# Altium schematic symbol library kmilo17pet-LT_PMIC_LT.SchLib: 2252 symbols (part 87 of 124)
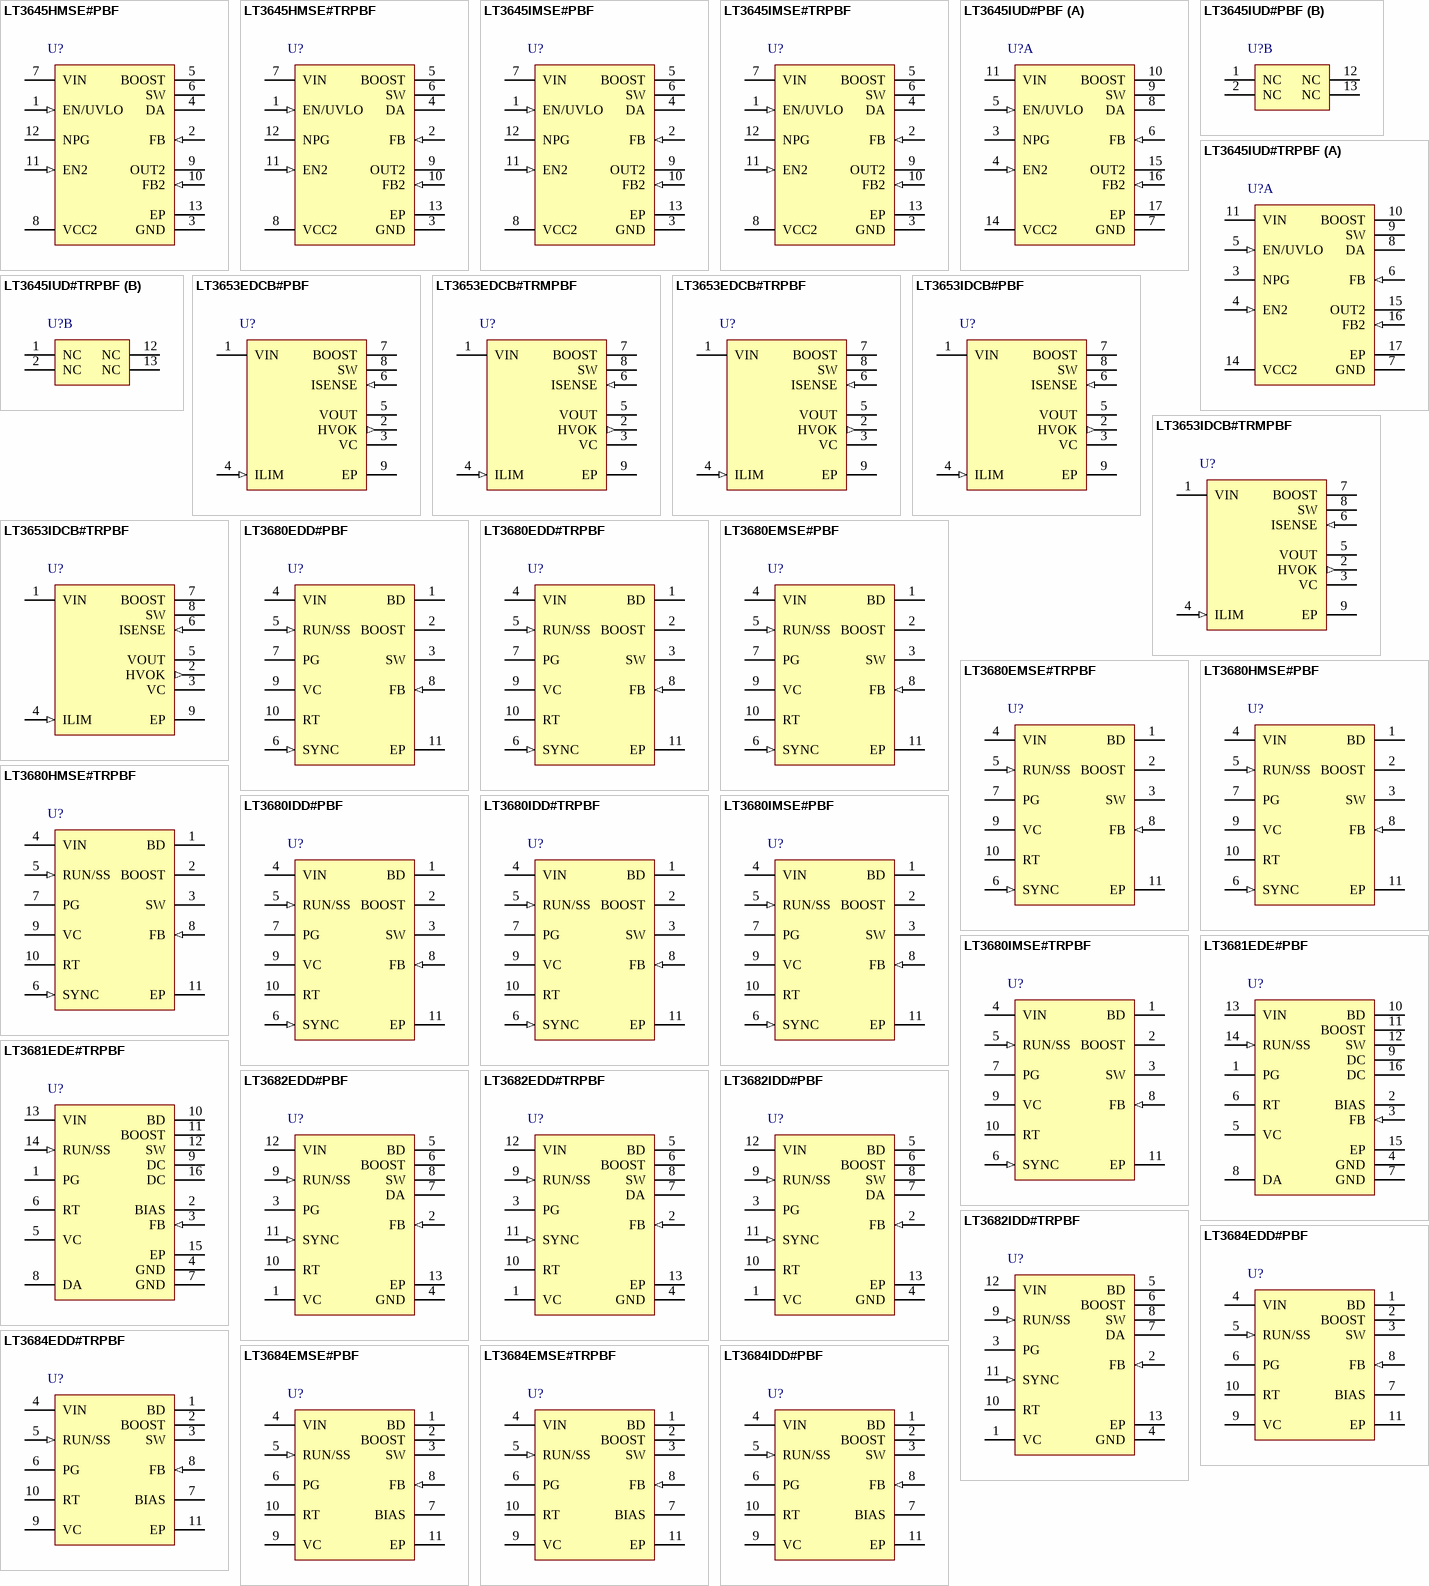
[diagram p157: symbols LT3645HMSE#PBF to LT3684IDD#PBF]

## LT3653IDCB#TRPBF
designator U?
1.2 A, HV Input Regulator with Output Current Limit for Battery Charger Application, 8-pin SON (DCB-8), -40 to 125 degC, Pb-Free, Tape and Reel; Manufacturer: Linear Technology; PartNumber: LT3653IDCB#TRPBF; Number of Outputs: 1; PackageReference: DCB-8; PackageDescription: 8-Pin Plastic DFN, Body 2 x 3 mm, Pitch 0.45 mm; Supplier 1: Digi-Key; Supplier Part Number 1: LT3653IDCB#TRPBF-ND; RoHS: TRUE
footprint LT-DCB-8_V (SON, 8-Leads, Body 3x2mm, Pitch 0.45mm, Thermal Pad 1.65x1.35mm)
pins: 1 VIN (power) "The VIN pin supplies current to the LT3653’s internal regulator and the internal power switch. Locally bypass this pin with a capacitor.", 2 HVOK (out) "The HVOK pin is a status pin which indicates that the internal bias rail is present and that an input undervoltage lockout fault, an overvoltage lockout fault or an over temperature fault are not present.", 3 VC "The VC pin is the output of the internal error amplifier and is internally compensated. The voltage on this pin controls the peak switch current. Connect this pin to the battery charger VC pin for battery tracking function.", 4 ILIM (in) "Connect a resistor to GND to program the output current limit of the regulator. See the ILIM Resistor section in Application Information.", 5 VOUT (power) "The VOUT pin is connected to the negative terminal of the internal current sense resistor of the output current limit circuit. Maximum VOUT voltage is regulated to 4.8V.", 6 ISENSE (in) "The ISENSE pin is the positive input to the internal current sense resistor of the output current limit circuit. The ISENSE pin is also the anode of the internal BOOST diode.", 7 BOOST "The BOOST pin provides a drive voltage, higher than the input voltage, to the internal power switch. The BOOST pin is internally connected to the cathode of the BOOST diode.", 8 SW (power) "The SW pin is the output of the internal power switch. Connect this pin to the inductor, catch diode and boost capacitor.", 9 EP (power) "Ground. The Exposed Pad must be soldered to the PCB and electrically connected to ground. Use a large ground plane and vias to optimize thermal performance."

## LT3680EDD#PBF
designator U?
3.5 A, 2.4 MHz Step-Down Switching Regulator with 75 uA Quiescent Current, 10-pin SON (DD-10), -40 to 125 degC, Pb-Free; Manufacturer: Linear Technology; PartNumber: LT3680EDD#PBF; Number of Outputs: 1; PackageReference: DD-10; PackageDescription: 10-Pin Plastic DFN, Body 3 x 3 mm, Pitch 0.5 mm; Supplier 1: Digi-Key; Supplier Part Number 1: LT3680EDD#PBF-ND; RoHS: TRUE
footprint LT-DD-10_V (SON, 10-Leads, Body 3x3mm, Pitch 0.5mm, Thermal Pad 2.38x1.65mm)
pins: 1 BD (power) "This pin connects to the anode of the boost Schottky diode. BD also supplies current to the internal regulator.", 2 BOOST "This pin is used to provide a drive voltage, higher than the input voltage, to the internal bipolar NPN power switch.", 3 SW (power) "The SW pin is the output of the internal power switch. Connect this pin to the inductor, catch diode and boost capacitor.", 4 VIN (power) "The VIN pin supplies current to internal regulator and to the internal power switch. This pin must be locally bypassed.", 5 RUN/SS (in) "If the shutdown feature is not used, tie this pin to the VIN pin. RUN/SS also provides a soft-start function; see the Applications Information section.", 6 SYNC (in) "This is the external clock synchronization input. Ground this pin for low ripple Burst Mode operation at low output loads. Tie to a clock source for synchronization. Clock edges should have rise and fall times faster than (See Datasheet)", 7 PG (oc) "The PG pin is the open collector output of an internal comparator. PG remains low until the FB pin is within 9% of the final regulation voltage. PG output is valid when VIN is above 3.6V and RUN/SS is high.", 8 FB (in) "Connect the feedback resistor divider tap to this pin.", 9 VC "The VC pin is the output of the internal error amplifier. The voltage on this pin controls the peak switch current. Tie an RC network from this pin to ground to compensate the control loop.", 10 RT "Oscillator Resistor Input. Connecting a resistor to ground from this pin sets the switching frequency.", 11 EP (power) "Ground. The Exposed Pad must be soldered to PCB."

## LT3680EDD#TRPBF
designator U?
3.5 A, 2.4 MHz Step-Down Switching Regulator with 75 uA Quiescent Current, 10-pin SON (DD-10), -40 to 125 degC, Pb-Free, Tape and Reel; Manufacturer: Linear Technology; PartNumber: LT3680EDD#TRPBF; Number of Outputs: 1; PackageReference: DD-10; PackageDescription: 10-Pin Plastic DFN, Body 3 x 3 mm, Pitch 0.5 mm; Supplier 1: Digi-Key; Supplier Part Number 1: LT3680EDD#TRPBF-ND; RoHS: TRUE
footprint LT-DD-10_V (SON, 10-Leads, Body 3x3mm, Pitch 0.5mm, Thermal Pad 2.38x1.65mm)
pins: 1 BD (power) "This pin connects to the anode of the boost Schottky diode. BD also supplies current to the internal regulator.", 2 BOOST "This pin is used to provide a drive voltage, higher than the input voltage, to the internal bipolar NPN power switch.", 3 SW (power) "The SW pin is the output of the internal power switch. Connect this pin to the inductor, catch diode and boost capacitor.", 4 VIN (power) "The VIN pin supplies current to internal regulator and to the internal power switch. This pin must be locally bypassed.", 5 RUN/SS (in) "If the shutdown feature is not used, tie this pin to the VIN pin. RUN/SS also provides a soft-start function; see the Applications Information section.", 6 SYNC (in) "This is the external clock synchronization input. Ground this pin for low ripple Burst Mode operation at low output loads. Tie to a clock source for synchronization. Clock edges should have rise and fall times faster than (See Datasheet)", 7 PG (oc) "The PG pin is the open collector output of an internal comparator. PG remains low until the FB pin is within 9% of the final regulation voltage. PG output is valid when VIN is above 3.6V and RUN/SS is high.", 8 FB (in) "Connect the feedback resistor divider tap to this pin.", 9 VC "The VC pin is the output of the internal error amplifier. The voltage on this pin controls the peak switch current. Tie an RC network from this pin to ground to compensate the control loop.", 10 RT "Oscillator Resistor Input. Connecting a resistor to ground from this pin sets the switching frequency.", 11 EP (power) "Ground. The Exposed Pad must be soldered to PCB."

## LT3680EMSE#PBF
designator U?
3.5 A, 2.4 MHz Step-Down Switching Regulator with 75 uA Quiescent Current, 10-pin SOP (MSE-10-EDP), -40 to 125 degC, Pb-Free; Manufacturer: Linear Technology; PartNumber: LT3680EMSE#PBF; Number of Outputs: 1; PackageReference: MSE-10; PackageDescription: 10-Pin Plastic MSOP, Exposed Die Pad, Body 3 x 3 mm, Pitch 0.5 mm; Supplier 1: Digi-Key; Supplier Part Number 1: LT3680EMSE#PBF-ND; RoHS: TRUE
footprint LT-MSE-10-EDP-2060x1830TP_N (SOP, 10-Leads, Body 3.1x3.1mm, Pitch 0.5mm, Thermal Pad 2.17x1.94mm, IPC Medium Density)
footprint LT-MSE-10-EDP-2060x1830TP_L (SOP, 10-Leads, Body 3.1x3.1mm, Pitch 0.5mm, Thermal Pad 2.17x1.94mm, IPC High Density)
footprint LT-MSE-10-EDP-2060x1830TP_M (SOP, 10-Leads, Body 3.1x3.1mm, Pitch 0.5mm, Thermal Pad 2.17x1.94mm, IPC Low Density)
pins: 1 BD (power) "This pin connects to the anode of the boost Schottky diode. BD also supplies current to the internal regulator.", 2 BOOST "This pin is used to provide a drive voltage, higher than the input voltage, to the internal bipolar NPN power switch.", 3 SW (power) "The SW pin is the output of the internal power switch. Connect this pin to the inductor, catch diode and boost capacitor.", 4 VIN (power) "The VIN pin supplies current to internal regulator and to the internal power switch. This pin must be locally bypassed.", 5 RUN/SS (in) "If the shutdown feature is not used, tie this pin to the VIN pin. RUN/SS also provides a soft-start function; see the Applications Information section.", 6 SYNC (in) "This is the external clock synchronization input. Ground this pin for low ripple Burst Mode operation at low output loads. Tie to a clock source for synchronization. Clock edges should have rise and fall times faster than (See Datasheet)", 7 PG (oc) "The PG pin is the open collector output of an internal comparator. PG remains low until the FB pin is within 9% of the final regulation voltage. PG output is valid when VIN is above 3.6V and RUN/SS is high.", 8 FB (in) "Connect the feedback resistor divider tap to this pin.", 9 VC "The VC pin is the output of the internal error amplifier. The voltage on this pin controls the peak switch current. Tie an RC network from this pin to ground to compensate the control loop.", 10 RT "Oscillator Resistor Input. Connecting a resistor to ground from this pin sets the switching frequency.", 11 EP (power) "Ground. The Exposed Pad must be soldered to PCB."

## LT3680EMSE#TRPBF
designator U?
3.5 A, 2.4 MHz Step-Down Switching Regulator with 75 uA Quiescent Current, 10-pin SOP (MSE-10-EDP), -40 to 125 degC, Pb-Free, Tape and Reel; Manufacturer: Linear Technology; PartNumber: LT3680EMSE#TRPBF; Number of Outputs: 1; PackageReference: MSE-10; PackageDescription: 10-Pin Plastic MSOP, Exposed Die Pad, Body 3 x 3 mm, Pitch 0.5 mm; Supplier 1: Digi-Key; Supplier Part Number 1: LT3680EMSE#TRPBFTR-ND; RoHS: TRUE
footprint LT-MSE-10-EDP-2060x1830TP_N (SOP, 10-Leads, Body 3.1x3.1mm, Pitch 0.5mm, Thermal Pad 2.17x1.94mm, IPC Medium Density)
footprint LT-MSE-10-EDP-2060x1830TP_L (SOP, 10-Leads, Body 3.1x3.1mm, Pitch 0.5mm, Thermal Pad 2.17x1.94mm, IPC High Density)
footprint LT-MSE-10-EDP-2060x1830TP_M (SOP, 10-Leads, Body 3.1x3.1mm, Pitch 0.5mm, Thermal Pad 2.17x1.94mm, IPC Low Density)
pins: 1 BD (power) "This pin connects to the anode of the boost Schottky diode. BD also supplies current to the internal regulator.", 2 BOOST "This pin is used to provide a drive voltage, higher than the input voltage, to the internal bipolar NPN power switch.", 3 SW (power) "The SW pin is the output of the internal power switch. Connect this pin to the inductor, catch diode and boost capacitor.", 4 VIN (power) "The VIN pin supplies current to internal regulator and to the internal power switch. This pin must be locally bypassed.", 5 RUN/SS (in) "If the shutdown feature is not used, tie this pin to the VIN pin. RUN/SS also provides a soft-start function; see the Applications Information section.", 6 SYNC (in) "This is the external clock synchronization input. Ground this pin for low ripple Burst Mode operation at low output loads. Tie to a clock source for synchronization. Clock edges should have rise and fall times faster than (See Datasheet)", 7 PG (oc) "The PG pin is the open collector output of an internal comparator. PG remains low until the FB pin is within 9% of the final regulation voltage. PG output is valid when VIN is above 3.6V and RUN/SS is high.", 8 FB (in) "Connect the feedback resistor divider tap to this pin.", 9 VC "The VC pin is the output of the internal error amplifier. The voltage on this pin controls the peak switch current. Tie an RC network from this pin to ground to compensate the control loop.", 10 RT "Oscillator Resistor Input. Connecting a resistor to ground from this pin sets the switching frequency.", 11 EP (power) "Ground. The Exposed Pad must be soldered to PCB."

## LT3680HMSE#PBF
designator U?
3.5 A, 2.4 MHz Step-Down Switching Regulator with 75 uA Quiescent Current, 10-pin SOP (MSE-10-EDP), -40 to 150 degC, Pb-Free; Manufacturer: Linear Technology; PartNumber: LT3680HMSE#PBF; Number of Outputs: 1; PackageReference: MSE-10; PackageDescription: 10-Pin Plastic MSOP, Exposed Die Pad, Body 3 x 3 mm, Pitch 0.5 mm; Supplier 1: Digi-Key; Supplier Part Number 1: LT3680HMSE#PBF-ND; RoHS: TRUE
footprint LT-MSE-10-EDP-2060x1830TP_N (SOP, 10-Leads, Body 3.1x3.1mm, Pitch 0.5mm, Thermal Pad 2.17x1.94mm, IPC Medium Density)
footprint LT-MSE-10-EDP-2060x1830TP_L (SOP, 10-Leads, Body 3.1x3.1mm, Pitch 0.5mm, Thermal Pad 2.17x1.94mm, IPC High Density)
footprint LT-MSE-10-EDP-2060x1830TP_M (SOP, 10-Leads, Body 3.1x3.1mm, Pitch 0.5mm, Thermal Pad 2.17x1.94mm, IPC Low Density)
pins: 1 BD (power) "This pin connects to the anode of the boost Schottky diode. BD also supplies current to the internal regulator.", 2 BOOST "This pin is used to provide a drive voltage, higher than the input voltage, to the internal bipolar NPN power switch.", 3 SW (power) "The SW pin is the output of the internal power switch. Connect this pin to the inductor, catch diode and boost capacitor.", 4 VIN (power) "The VIN pin supplies current to internal regulator and to the internal power switch. This pin must be locally bypassed.", 5 RUN/SS (in) "If the shutdown feature is not used, tie this pin to the VIN pin. RUN/SS also provides a soft-start function; see the Applications Information section.", 6 SYNC (in) "This is the external clock synchronization input. Ground this pin for low ripple Burst Mode operation at low output loads. Tie to a clock source for synchronization. Clock edges should have rise and fall times faster than (See Datasheet)", 7 PG (oc) "The PG pin is the open collector output of an internal comparator. PG remains low until the FB pin is within 9% of the final regulation voltage. PG output is valid when VIN is above 3.6V and RUN/SS is high.", 8 FB (in) "Connect the feedback resistor divider tap to this pin.", 9 VC "The VC pin is the output of the internal error amplifier. The voltage on this pin controls the peak switch current. Tie an RC network from this pin to ground to compensate the control loop.", 10 RT "Oscillator Resistor Input. Connecting a resistor to ground from this pin sets the switching frequency.", 11 EP (power) "Ground. The Exposed Pad must be soldered to PCB."

## LT3680HMSE#TRPBF
designator U?
3.5 A, 2.4 MHz Step-Down Switching Regulator with 75 uA Quiescent Current, 10-pin SOP (MSE-10-EDP), -40 to 150 degC, Pb-Free, Tape and Reel; Manufacturer: Linear Technology; PartNumber: LT3680HMSE#TRPBF; Number of Outputs: 1; PackageReference: MSE-10; PackageDescription: 10-Pin Plastic MSOP, Exposed Die Pad, Body 3 x 3 mm, Pitch 0.5 mm; Supplier 1: Digi-Key; Supplier Part Number 1: LT3680HMSE#TRPBF-ND; RoHS: TRUE
footprint LT-MSE-10-EDP-2060x1830TP_N (SOP, 10-Leads, Body 3.1x3.1mm, Pitch 0.5mm, Thermal Pad 2.17x1.94mm, IPC Medium Density)
footprint LT-MSE-10-EDP-2060x1830TP_L (SOP, 10-Leads, Body 3.1x3.1mm, Pitch 0.5mm, Thermal Pad 2.17x1.94mm, IPC High Density)
footprint LT-MSE-10-EDP-2060x1830TP_M (SOP, 10-Leads, Body 3.1x3.1mm, Pitch 0.5mm, Thermal Pad 2.17x1.94mm, IPC Low Density)
pins: 1 BD (power) "This pin connects to the anode of the boost Schottky diode. BD also supplies current to the internal regulator.", 2 BOOST "This pin is used to provide a drive voltage, higher than the input voltage, to the internal bipolar NPN power switch.", 3 SW (power) "The SW pin is the output of the internal power switch. Connect this pin to the inductor, catch diode and boost capacitor.", 4 VIN (power) "The VIN pin supplies current to internal regulator and to the internal power switch. This pin must be locally bypassed.", 5 RUN/SS (in) "If the shutdown feature is not used, tie this pin to the VIN pin. RUN/SS also provides a soft-start function; see the Applications Information section.", 6 SYNC (in) "This is the external clock synchronization input. Ground this pin for low ripple Burst Mode operation at low output loads. Tie to a clock source for synchronization. Clock edges should have rise and fall times faster than (See Datasheet)", 7 PG (oc) "The PG pin is the open collector output of an internal comparator. PG remains low until the FB pin is within 9% of the final regulation voltage. PG output is valid when VIN is above 3.6V and RUN/SS is high.", 8 FB (in) "Connect the feedback resistor divider tap to this pin.", 9 VC "The VC pin is the output of the internal error amplifier. The voltage on this pin controls the peak switch current. Tie an RC network from this pin to ground to compensate the control loop.", 10 RT "Oscillator Resistor Input. Connecting a resistor to ground from this pin sets the switching frequency.", 11 EP (power) "Ground. The Exposed Pad must be soldered to PCB."

## LT3680IDD#PBF
designator U?
3.5 A, 2.4 MHz Step-Down Switching Regulator with 75 uA Quiescent Current, 10-pin SON (DD-10), -40 to 125 degC, Pb-Free; Manufacturer: Linear Technology; PartNumber: LT3680IDD#PBF; Number of Outputs: 1; PackageReference: DD-10; PackageDescription: 10-Pin Plastic DFN, Body 3 x 3 mm, Pitch 0.5 mm; Supplier 1: Digi-Key; Supplier Part Number 1: LT3680IDD#PBF-ND; RoHS: TRUE
footprint LT-DD-10_V (SON, 10-Leads, Body 3x3mm, Pitch 0.5mm, Thermal Pad 2.38x1.65mm)
pins: 1 BD (power) "This pin connects to the anode of the boost Schottky diode. BD also supplies current to the internal regulator.", 2 BOOST "This pin is used to provide a drive voltage, higher than the input voltage, to the internal bipolar NPN power switch.", 3 SW (power) "The SW pin is the output of the internal power switch. Connect this pin to the inductor, catch diode and boost capacitor.", 4 VIN (power) "The VIN pin supplies current to internal regulator and to the internal power switch. This pin must be locally bypassed.", 5 RUN/SS (in) "If the shutdown feature is not used, tie this pin to the VIN pin. RUN/SS also provides a soft-start function; see the Applications Information section.", 6 SYNC (in) "This is the external clock synchronization input. Ground this pin for low ripple Burst Mode operation at low output loads. Tie to a clock source for synchronization. Clock edges should have rise and fall times faster than (See Datasheet)", 7 PG (oc) "The PG pin is the open collector output of an internal comparator. PG remains low until the FB pin is within 9% of the final regulation voltage. PG output is valid when VIN is above 3.6V and RUN/SS is high.", 8 FB (in) "Connect the feedback resistor divider tap to this pin.", 9 VC "The VC pin is the output of the internal error amplifier. The voltage on this pin controls the peak switch current. Tie an RC network from this pin to ground to compensate the control loop.", 10 RT "Oscillator Resistor Input. Connecting a resistor to ground from this pin sets the switching frequency.", 11 EP (power) "Ground. The Exposed Pad must be soldered to PCB."

## LT3680IDD#TRPBF
designator U?
3.5 A, 2.4 MHz Step-Down Switching Regulator with 75 uA Quiescent Current, 10-pin SON (DD-10), -40 to 125 degC, Pb-Free, Tape and Reel; Manufacturer: Linear Technology; PartNumber: LT3680IDD#TRPBF; Number of Outputs: 1; PackageReference: DD-10; PackageDescription: 10-Pin Plastic DFN, Body 3 x 3 mm, Pitch 0.5 mm; Supplier 1: Digi-Key; Supplier Part Number 1: LT3680IDD#TRPBF-ND; RoHS: TRUE
footprint LT-DD-10_V (SON, 10-Leads, Body 3x3mm, Pitch 0.5mm, Thermal Pad 2.38x1.65mm)
pins: 1 BD (power) "This pin connects to the anode of the boost Schottky diode. BD also supplies current to the internal regulator.", 2 BOOST "This pin is used to provide a drive voltage, higher than the input voltage, to the internal bipolar NPN power switch.", 3 SW (power) "The SW pin is the output of the internal power switch. Connect this pin to the inductor, catch diode and boost capacitor.", 4 VIN (power) "The VIN pin supplies current to internal regulator and to the internal power switch. This pin must be locally bypassed.", 5 RUN/SS (in) "If the shutdown feature is not used, tie this pin to the VIN pin. RUN/SS also provides a soft-start function; see the Applications Information section.", 6 SYNC (in) "This is the external clock synchronization input. Ground this pin for low ripple Burst Mode operation at low output loads. Tie to a clock source for synchronization. Clock edges should have rise and fall times faster than (See Datasheet)", 7 PG (oc) "The PG pin is the open collector output of an internal comparator. PG remains low until the FB pin is within 9% of the final regulation voltage. PG output is valid when VIN is above 3.6V and RUN/SS is high.", 8 FB (in) "Connect the feedback resistor divider tap to this pin.", 9 VC "The VC pin is the output of the internal error amplifier. The voltage on this pin controls the peak switch current. Tie an RC network from this pin to ground to compensate the control loop.", 10 RT "Oscillator Resistor Input. Connecting a resistor to ground from this pin sets the switching frequency.", 11 EP (power) "Ground. The Exposed Pad must be soldered to PCB."

## LT3680IMSE#PBF
designator U?
3.5 A, 2.4 MHz Step-Down Switching Regulator with 75 uA Quiescent Current, 10-pin SOP (MSE-10-EDP), -40 to 125 degC, Pb-Free; Manufacturer: Linear Technology; PartNumber: LT3680IMSE#PBF; Number of Outputs: 1; PackageReference: MSE-10; PackageDescription: 10-Pin Plastic MSOP, Exposed Die Pad, Body 3 x 3 mm, Pitch 0.5 mm; Supplier 1: Digi-Key; Supplier Part Number 1: LT3680IMSE#PBF-ND; RoHS: TRUE
footprint LT-MSE-10-EDP-2060x1830TP_N (SOP, 10-Leads, Body 3.1x3.1mm, Pitch 0.5mm, Thermal Pad 2.17x1.94mm, IPC Medium Density)
footprint LT-MSE-10-EDP-2060x1830TP_L (SOP, 10-Leads, Body 3.1x3.1mm, Pitch 0.5mm, Thermal Pad 2.17x1.94mm, IPC High Density)
footprint LT-MSE-10-EDP-2060x1830TP_M (SOP, 10-Leads, Body 3.1x3.1mm, Pitch 0.5mm, Thermal Pad 2.17x1.94mm, IPC Low Density)
pins: 1 BD (power) "This pin connects to the anode of the boost Schottky diode. BD also supplies current to the internal regulator.", 2 BOOST "This pin is used to provide a drive voltage, higher than the input voltage, to the internal bipolar NPN power switch.", 3 SW (power) "The SW pin is the output of the internal power switch. Connect this pin to the inductor, catch diode and boost capacitor.", 4 VIN (power) "The VIN pin supplies current to internal regulator and to the internal power switch. This pin must be locally bypassed.", 5 RUN/SS (in) "If the shutdown feature is not used, tie this pin to the VIN pin. RUN/SS also provides a soft-start function; see the Applications Information section.", 6 SYNC (in) "This is the external clock synchronization input. Ground this pin for low ripple Burst Mode operation at low output loads. Tie to a clock source for synchronization. Clock edges should have rise and fall times faster than (See Datasheet)", 7 PG (oc) "The PG pin is the open collector output of an internal comparator. PG remains low until the FB pin is within 9% of the final regulation voltage. PG output is valid when VIN is above 3.6V and RUN/SS is high.", 8 FB (in) "Connect the feedback resistor divider tap to this pin.", 9 VC "The VC pin is the output of the internal error amplifier. The voltage on this pin controls the peak switch current. Tie an RC network from this pin to ground to compensate the control loop.", 10 RT "Oscillator Resistor Input. Connecting a resistor to ground from this pin sets the switching frequency.", 11 EP (power) "Ground. The Exposed Pad must be soldered to PCB."

## LT3680IMSE#TRPBF
designator U?
3.5 A, 2.4 MHz Step-Down Switching Regulator with 75 uA Quiescent Current, 10-pin SOP (MSE-10-EDP), -40 to 125 degC, Pb-Free, Tape and Reel; Manufacturer: Linear Technology; PartNumber: LT3680IMSE#TRPBF; Number of Outputs: 1; PackageReference: MSE-10; PackageDescription: 10-Pin Plastic MSOP, Exposed Die Pad, Body 3 x 3 mm, Pitch 0.5 mm; Supplier 1: Digi-Key; Supplier Part Number 1: LT3680IMSE#TRPBF-ND; RoHS: TRUE
footprint LT-MSE-10-EDP-2060x1830TP_N (SOP, 10-Leads, Body 3.1x3.1mm, Pitch 0.5mm, Thermal Pad 2.17x1.94mm, IPC Medium Density)
footprint LT-MSE-10-EDP-2060x1830TP_L (SOP, 10-Leads, Body 3.1x3.1mm, Pitch 0.5mm, Thermal Pad 2.17x1.94mm, IPC High Density)
footprint LT-MSE-10-EDP-2060x1830TP_M (SOP, 10-Leads, Body 3.1x3.1mm, Pitch 0.5mm, Thermal Pad 2.17x1.94mm, IPC Low Density)
pins: 1 BD (power) "This pin connects to the anode of the boost Schottky diode. BD also supplies current to the internal regulator.", 2 BOOST "This pin is used to provide a drive voltage, higher than the input voltage, to the internal bipolar NPN power switch.", 3 SW (power) "The SW pin is the output of the internal power switch. Connect this pin to the inductor, catch diode and boost capacitor.", 4 VIN (power) "The VIN pin supplies current to internal regulator and to the internal power switch. This pin must be locally bypassed.", 5 RUN/SS (in) "If the shutdown feature is not used, tie this pin to the VIN pin. RUN/SS also provides a soft-start function; see the Applications Information section.", 6 SYNC (in) "This is the external clock synchronization input. Ground this pin for low ripple Burst Mode operation at low output loads. Tie to a clock source for synchronization. Clock edges should have rise and fall times faster than (See Datasheet)", 7 PG (oc) "The PG pin is the open collector output of an internal comparator. PG remains low until the FB pin is within 9% of the final regulation voltage. PG output is valid when VIN is above 3.6V and RUN/SS is high.", 8 FB (in) "Connect the feedback resistor divider tap to this pin.", 9 VC "The VC pin is the output of the internal error amplifier. The voltage on this pin controls the peak switch current. Tie an RC network from this pin to ground to compensate the control loop.", 10 RT "Oscillator Resistor Input. Connecting a resistor to ground from this pin sets the switching frequency.", 11 EP (power) "Ground. The Exposed Pad must be soldered to PCB."

## LT3681EDE#PBF
designator U?
2 A, 2.8 MHz Step-Down Switching Regulator with Integrated Power Schottky Diode, 14-pin SON (DE14MA-14), -40 to 85 degC, Pb-Free; Manufacturer: Linear Technology; PartNumber: LT3681EDE#PBF; Number of Outputs: 1; PackageReference: DE14MA-14; PackageDescription: 14-Pin Plastic DFN, Body 4 x 3 mm, Pitch 0.5 mm; Supplier 1: Digi-Key; Supplier Part Number 1: LT3681EDE#PBF-ND; RoHS: TRUE
footprint LT-DE14MA-14_V (DE14MA, 14-Leads, Body 4x3mm, Pitch 0.5mm)
pins: 1 PG (oc) "The PG pin is the open collector output of an internal comparator. PG remains low until the FB pin is within 10% of the fi nal regulation voltage. PG output is valid when VIN is above 3.5V and RUN/SS is high", 2 BIAS (power) "The BIAS pin supplies the current to the LT3681’s internal regulator. Tie this pin to the lowest available voltage source above 3V (typically VOUT). This architecture increases effi ciency especially when the input voltag(See Datasheet)", 3 FB (in) "The LT3681 regulates the FB pin to 1.265V. Connect the feedback resistor divider tap to this pin.", 4 GND (power) "All three of these terminals internally connect to the LT3681 control IC’s signal return, while exposed pad 15 performs the added function of providing a low thermal resistance heat flow path between the IC and the syste(See Datasheet)", 5 VC "The VC pin is the output of the internal erroramplifier. The voltage on this pin controls the peak switch current. Tie an RC network from this pin to ground to compensate the control loop", 6 RT "Oscillator Resistor Input. Connecting a resistor to ground from this pin sets the switching frequency.", 7 GND (power) "All three of these terminals internally connect to the LT3681 control IC’s signal return, while exposed pad 15 performs the added function of providing a low thermal resistance heat flow path between the IC and the syste(See Datasheet)", 8 DA "This is the anode of the integrated power Schottky diode. High frequency, large amplitude currents fl ow through this pin, so tie it to ground through a low impedance connection.", 9 DC "These pins connect to the cathode of the integrated power Schottky diode. High frequency, large amplitude currents fl ow through these pins,so tie them to SW through a low impedance connection.", 10 BD (power) "This pin connects to the anode of the internal boost Schottky diode.", 11 BOOST "This pin is used to provide a drive voltage, higher than the input voltage, to the internal bipolar NPN power switch. Connect a capacitor between this pin and SW.", 12 SW (power) "The SW pin is the output of the internal power switch. Connect this pin to the inductor, DC and boost capacitor.", 13 VIN (power) "The VIN pin supplies current to the LT3681’s internal regulator and to the internal power switch. This pin must be locally bypassed", 14 RUN/SS (in) "The RUN/SS pin is used to put the LT3681 in shutdown mode. Tie to ground to shut down the LT3681. Tie to 2.3V or more for normal operation. If he shutdown feature is not used, tie this pin to the VIN pin. RUN/SS also (See Datasheet)", 15 EP (power) "All three of these terminals internally connect to the LT3681 control IC’s signal return, while exposed pad 15 performs the added function of providing a low thermal resistance heat flow path between the IC and the syste(See Datasheet)", 16 DC "These pins connect to the cathode of the integrated power Schottky diode. High frequency, large amplitude currents fl ow through these pins,so tie them to SW through a low impedance connection."

## LT3681EDE#TRPBF
designator U?
2 A, 2.8 MHz Step-Down Switching Regulator with Integrated Power Schottky Diode, 14-pin SON (DE14MA-14), -40 to 85 degC, Pb-Free, Tape and Reel; Manufacturer: Linear Technology; PartNumber: LT3681EDE#TRPBF; Number of Outputs: 1; PackageReference: DE14MA-14; PackageDescription: 14-Pin Plastic DFN, Body 4 x 3 mm, Pitch 0.5 mm; Supplier 1: Digi-Key; Supplier Part Number 1: LT3681EDE#TRPBF-ND; RoHS: TRUE
footprint LT-DE14MA-14_V (DE14MA, 14-Leads, Body 4x3mm, Pitch 0.5mm)
pins: 1 PG (oc) "The PG pin is the open collector output of an internal comparator. PG remains low until the FB pin is within 10% of the fi nal regulation voltage. PG output is valid when VIN is above 3.5V and RUN/SS is high", 2 BIAS (power) "The BIAS pin supplies the current to the LT3681’s internal regulator. Tie this pin to the lowest available voltage source above 3V (typically VOUT). This architecture increases effi ciency especially when the input voltag(See Datasheet)", 3 FB (in) "The LT3681 regulates the FB pin to 1.265V. Connect the feedback resistor divider tap to this pin.", 4 GND (power) "All three of these terminals internally connect to the LT3681 control IC’s signal return, while exposed pad 15 performs the added function of providing a low thermal resistance heat flow path between the IC and the syste(See Datasheet)", 5 VC "The VC pin is the output of the internal erroramplifier. The voltage on this pin controls the peak switch current. Tie an RC network from this pin to ground to compensate the control loop", 6 RT "Oscillator Resistor Input. Connecting a resistor to ground from this pin sets the switching frequency.", 7 GND (power) "All three of these terminals internally connect to the LT3681 control IC’s signal return, while exposed pad 15 performs the added function of providing a low thermal resistance heat flow path between the IC and the syste(See Datasheet)", 8 DA "This is the anode of the integrated power Schottky diode. High frequency, large amplitude currents fl ow through this pin, so tie it to ground through a low impedance connection.", 9 DC "These pins connect to the cathode of the integrated power Schottky diode. High frequency, large amplitude currents fl ow through these pins,so tie them to SW through a low impedance connection.", 10 BD (power) "This pin connects to the anode of the internal boost Schottky diode.", 11 BOOST "This pin is used to provide a drive voltage, higher than the input voltage, to the internal bipolar NPN power switch. Connect a capacitor between this pin and SW.", 12 SW (power) "The SW pin is the output of the internal power switch. Connect this pin to the inductor, DC and boost capacitor.", 13 VIN (power) "The VIN pin supplies current to the LT3681’s internal regulator and to the internal power switch. This pin must be locally bypassed", 14 RUN/SS (in) "The RUN/SS pin is used to put the LT3681 in shutdown mode. Tie to ground to shut down the LT3681. Tie to 2.3V or more for normal operation. If he shutdown feature is not used, tie this pin to the VIN pin. RUN/SS also (See Datasheet)", 15 EP (power) "All three of these terminals internally connect to the LT3681 control IC’s signal return, while exposed pad 15 performs the added function of providing a low thermal resistance heat flow path between the IC and the syste(See Datasheet)", 16 DC "These pins connect to the cathode of the integrated power Schottky diode. High frequency, large amplitude currents fl ow through these pins,so tie them to SW through a low impedance connection."

## LT3682EDD#PBF
designator U?
1 A Micropower Step-Down Switching Regulator, 12-pin SON (DD-12), -40 to 125 degC, Pb-Free; Manufacturer: Linear Technology; PartNumber: LT3682EDD#PBF; Number of Outputs: 1; PackageReference: DD-12; PackageDescription: 12-Pin Plastic DFN, Body 3 x 3 mm, Pitch 0.45 mm; Supplier 1: Digi-Key; Supplier Part Number 1: LT3682EDD#PBF-ND; RoHS: TRUE
footprint LT-DD-12_V (SON, 12-Leads, Body 3x3mm, Pitch 0.45mm, Thermal Pad 2.38x1.65mm)
pins: 1 VC "The VC pin is the output of the internal error amplifier. The voltage on this pin controls the peak switch current. Tie an RC network from this pin to ground to compensate the control loop.", 2 FB (in) "The LT3682 regulates the FB pin to 0.8V. Connect the feedback resistor divider tap to this pin.", 3 PG (oc) "The PG pin is the open collector output of an internal comparator. PG remains low until the FB pin is within 10% of the final regulation voltage. PG output is valid when VIN is above the minimum input voltage and RUN/SS is (See Datasheet)", 4 GND (power) "The GND pin is the ground of all the internal circuitry. Tie directly to the local GND plane.", 5 BD (power) "This pin connects to the anode of the boost Schottky diode. BD also supplies current to the LT3682’s internal regulator.", 6 BOOST "This pin is used to provide a drive voltage, higher than the input voltage, to the internal bipolar NPN power switch. Connect a capacitor (typically 0.22uF) between BOOST and SW.", 7 DA "Connect the anode of the catch diode (D1 in Block Diagram) to this pin. Internal circuitry senses the current through the catch diode providing frequency foldback in extreme situations.", 8 SW (power) "The SW pin is the output of the internal power switch. Connect this pin to the inductor, catch diode and boost capacitor.", 9 RUN/SS (in) "The RUN/SS pin is used to put the LT3682 in shutdown mode. Tie to ground to shut down the LT3682. Tie to 2.5V or more for normal operation. RUN/SS also provides a soft-start function; see the Applications Information section (See Datasheet)", 10 RT "Oscillator Resistor Input. Connect a resistor from this pin to ground to set the switching frequency.", 11 SYNC (in) "This is the external clock synchronization input. Ground this pin for low ripple Burst Mode operation at low output loads. Tie to 0.8V or more for pulse skipping mode operation. Tie to a clock source for synchronization. (See Datasheet)", 12 VIN (power) "The VIN pin supplies current to the LT3682’s internal regulator and to the internal power switch. This pin must be locally bypassed.", 13 EP (power) "PGND. This is the power ground used by the catch diode (D1) when its anode is connected to the DA pin. The exposed pad must be soldered to the PCB."

## LT3682EDD#TRPBF
designator U?
1 A Micropower Step-Down Switching Regulator, 12-pin SON (DD-12), -40 to 125 degC, Pb-Free, Tape and Reel; Manufacturer: Linear Technology; PartNumber: LT3682EDD#TRPBF; Number of Outputs: 1; PackageReference: DD-12; PackageDescription: 12-Pin Plastic DFN, Body 3 x 3 mm, Pitch 0.45 mm; Supplier 1: Digi-Key; Supplier Part Number 1: LT3682EDD#TRPBF-ND; RoHS: TRUE
footprint LT-DD-12_V (SON, 12-Leads, Body 3x3mm, Pitch 0.45mm, Thermal Pad 2.38x1.65mm)
pins: 1 VC "The VC pin is the output of the internal error amplifier. The voltage on this pin controls the peak switch current. Tie an RC network from this pin to ground to compensate the control loop.", 2 FB (in) "The LT3682 regulates the FB pin to 0.8V. Connect the feedback resistor divider tap to this pin.", 3 PG (oc) "The PG pin is the open collector output of an internal comparator. PG remains low until the FB pin is within 10% of the final regulation voltage. PG output is valid when VIN is above the minimum input voltage and RUN/SS is (See Datasheet)", 4 GND (power) "The GND pin is the ground of all the internal circuitry. Tie directly to the local GND plane.", 5 BD (power) "This pin connects to the anode of the boost Schottky diode. BD also supplies current to the LT3682’s internal regulator.", 6 BOOST "This pin is used to provide a drive voltage, higher than the input voltage, to the internal bipolar NPN power switch. Connect a capacitor (typically 0.22uF) between BOOST and SW.", 7 DA "Connect the anode of the catch diode (D1 in Block Diagram) to this pin. Internal circuitry senses the current through the catch diode providing frequency foldback in extreme situations.", 8 SW (power) "The SW pin is the output of the internal power switch. Connect this pin to the inductor, catch diode and boost capacitor.", 9 RUN/SS (in) "The RUN/SS pin is used to put the LT3682 in shutdown mode. Tie to ground to shut down the LT3682. Tie to 2.5V or more for normal operation. RUN/SS also provides a soft-start function; see the Applications Information section (See Datasheet)", 10 RT "Oscillator Resistor Input. Connect a resistor from this pin to ground to set the switching frequency.", 11 SYNC (in) "This is the external clock synchronization input. Ground this pin for low ripple Burst Mode operation at low output loads. Tie to 0.8V or more for pulse skipping mode operation. Tie to a clock source for synchronization. (See Datasheet)", 12 VIN (power) "The VIN pin supplies current to the LT3682’s internal regulator and to the internal power switch. This pin must be locally bypassed.", 13 EP (power) "PGND. This is the power ground used by the catch diode (D1) when its anode is connected to the DA pin. The exposed pad must be soldered to the PCB."

## LT3682IDD#PBF
designator U?
1 A Micropower Step-Down Switching Regulator, 12-pin SON (DD-12), -40 to 125 degC, Pb-Free; Manufacturer: Linear Technology; PartNumber: LT3682IDD#PBF; Number of Outputs: 1; PackageReference: DD-12; PackageDescription: 12-Pin Plastic DFN, Body 3 x 3 mm, Pitch 0.45 mm; Supplier 1: Digi-Key; Supplier Part Number 1: LT3682IDD#PBF-ND; RoHS: TRUE
footprint LT-DD-12_V (SON, 12-Leads, Body 3x3mm, Pitch 0.45mm, Thermal Pad 2.38x1.65mm)
pins: 1 VC "The VC pin is the output of the internal error amplifier. The voltage on this pin controls the peak switch current. Tie an RC network from this pin to ground to compensate the control loop.", 2 FB (in) "The LT3682 regulates the FB pin to 0.8V. Connect the feedback resistor divider tap to this pin.", 3 PG (oc) "The PG pin is the open collector output of an internal comparator. PG remains low until the FB pin is within 10% of the final regulation voltage. PG output is valid when VIN is above the minimum input voltage and RUN/SS is (See Datasheet)", 4 GND (power) "The GND pin is the ground of all the internal circuitry. Tie directly to the local GND plane.", 5 BD (power) "This pin connects to the anode of the boost Schottky diode. BD also supplies current to the LT3682’s internal regulator.", 6 BOOST "This pin is used to provide a drive voltage, higher than the input voltage, to the internal bipolar NPN power switch. Connect a capacitor (typically 0.22uF) between BOOST and SW.", 7 DA "Connect the anode of the catch diode (D1 in Block Diagram) to this pin. Internal circuitry senses the current through the catch diode providing frequency foldback in extreme situations.", 8 SW (power) "The SW pin is the output of the internal power switch. Connect this pin to the inductor, catch diode and boost capacitor.", 9 RUN/SS (in) "The RUN/SS pin is used to put the LT3682 in shutdown mode. Tie to ground to shut down the LT3682. Tie to 2.5V or more for normal operation. RUN/SS also provides a soft-start function; see the Applications Information section (See Datasheet)", 10 RT "Oscillator Resistor Input. Connect a resistor from this pin to ground to set the switching frequency.", 11 SYNC (in) "This is the external clock synchronization input. Ground this pin for low ripple Burst Mode operation at low output loads. Tie to 0.8V or more for pulse skipping mode operation. Tie to a clock source for synchronization. (See Datasheet)", 12 VIN (power) "The VIN pin supplies current to the LT3682’s internal regulator and to the internal power switch. This pin must be locally bypassed.", 13 EP (power) "PGND. This is the power ground used by the catch diode (D1) when its anode is connected to the DA pin. The exposed pad must be soldered to the PCB."

## LT3682IDD#TRPBF
designator U?
1 A Micropower Step-Down Switching Regulator, 12-pin SON (DD-12), -40 to 125 degC, Pb-Free, Tape and Reel; Manufacturer: Linear Technology; PartNumber: LT3682IDD#TRPBF; Number of Outputs: 1; PackageReference: DD-12; PackageDescription: 12-Pin Plastic DFN, Body 3 x 3 mm, Pitch 0.45 mm; Supplier 1: Digi-Key; Supplier Part Number 1: LT3682IDD#TRPBF-ND; RoHS: TRUE
footprint LT-DD-12_V (SON, 12-Leads, Body 3x3mm, Pitch 0.45mm, Thermal Pad 2.38x1.65mm)
pins: 1 VC "The VC pin is the output of the internal error amplifier. The voltage on this pin controls the peak switch current. Tie an RC network from this pin to ground to compensate the control loop.", 2 FB (in) "The LT3682 regulates the FB pin to 0.8V. Connect the feedback resistor divider tap to this pin.", 3 PG (oc) "The PG pin is the open collector output of an internal comparator. PG remains low until the FB pin is within 10% of the final regulation voltage. PG output is valid when VIN is above the minimum input voltage and RUN/SS is (See Datasheet)", 4 GND (power) "The GND pin is the ground of all the internal circuitry. Tie directly to the local GND plane.", 5 BD (power) "This pin connects to the anode of the boost Schottky diode. BD also supplies current to the LT3682’s internal regulator.", 6 BOOST "This pin is used to provide a drive voltage, higher than the input voltage, to the internal bipolar NPN power switch. Connect a capacitor (typically 0.22uF) between BOOST and SW.", 7 DA "Connect the anode of the catch diode (D1 in Block Diagram) to this pin. Internal circuitry senses the current through the catch diode providing frequency foldback in extreme situations.", 8 SW (power) "The SW pin is the output of the internal power switch. Connect this pin to the inductor, catch diode and boost capacitor.", 9 RUN/SS (in) "The RUN/SS pin is used to put the LT3682 in shutdown mode. Tie to ground to shut down the LT3682. Tie to 2.5V or more for normal operation. RUN/SS also provides a soft-start function; see the Applications Information section (See Datasheet)", 10 RT "Oscillator Resistor Input. Connect a resistor from this pin to ground to set the switching frequency.", 11 SYNC (in) "This is the external clock synchronization input. Ground this pin for low ripple Burst Mode operation at low output loads. Tie to 0.8V or more for pulse skipping mode operation. Tie to a clock source for synchronization. (See Datasheet)", 12 VIN (power) "The VIN pin supplies current to the LT3682’s internal regulator and to the internal power switch. This pin must be locally bypassed.", 13 EP (power) "PGND. This is the power ground used by the catch diode (D1) when its anode is connected to the DA pin. The exposed pad must be soldered to the PCB."

## LT3684EDD#PBF
designator U?
2 A, 2.8 MHz Step-Down Switching Regulator, 10-pin SON (DD-10), -40 to 85 degC, Pb-Free; Manufacturer: Linear Technology; PartNumber: LT3684EDD#PBF; Number of Outputs: 1; PackageReference: DD-10; PackageDescription: 10-Pin Plastic DFN, Body 3 x 3 mm, Pitch 0.5 mm; Supplier 1: Digi-Key; Supplier Part Number 1: LT3684EDD#PBF-ND; RoHS: TRUE
footprint LT-DD-10_V (SON, 10-Leads, Body 3x3mm, Pitch 0.5mm, Thermal Pad 2.38x1.65mm)
pins: 1 BD (power) "This pin connects to the anode of the boost Schottky diode.", 2 BOOST "This pin is used to provide a drive voltage, higher than the input voltage, to the internal bipolar NPN power switch.", 3 SW (power) "The SW pin is the output of the internal power switch. Connect this pin to the inductor, catch diode and boost capacitor.", 4 VIN (power) "The VIN pin supplies current to the LT3684’s internal regulator and to the internal power switch. This pin must be locally bypassed.", 5 RUN/SS (in) "The RUN/SS pin is used to put the LT3684 in shutdown mode. Tie to ground to shut down the LT3684. Tie to 2.3V or more for normal operation. If the shutdown feature is not used, tie this pin to the VIN pin. RUN/SS also (See Datasheet)", 6 PG (oc) "The PG pin is the open collector output of an internal comparator. PG remains low until the FB pin is within 10% of the final regulation voltage. PG output is valid when VIN is above 3.5V and RUN/SS is high.", 7 BIAS (power) "The BIAS pin supplies the current to the LT3684’s internal regulator. Tie this pin to the lowest available voltage source above 3V (typically VOUT). This architecture increases effi ciency especially when the input voltag(See Datasheet)", 8 FB (in) "The LT3684 regulates the FB pin to 1.265V. Connect the feedback resistor divider tap to this pin.", 9 VC "The VC pin is the output of the internal error amplifier. The voltage on this pin controls the peak switch current. Tie an RC network from this pin to ground to compensate the control loop.", 10 RT "Oscillator Resistor Input. Connecting a resistor to ground from this pin sets the switching frequency.", 11 EP (power) "Ground. The Exposed Pad must be soldered to PCB."

## LT3684EDD#TRPBF
designator U?
2 A, 2.8 MHz Step-Down Switching Regulator, 10-pin SON (DD-10), -40 to 85 degC, Pb-Free, Tape and Reel; Manufacturer: Linear Technology; PartNumber: LT3684EDD#TRPBF; Number of Outputs: 1; PackageReference: DD-10; PackageDescription: 10-Pin Plastic DFN, Body 3 x 3 mm, Pitch 0.5 mm; Supplier 1: Digi-Key; Supplier Part Number 1: LT3684EDD#TRPBF-ND; RoHS: TRUE
footprint LT-DD-10_V (SON, 10-Leads, Body 3x3mm, Pitch 0.5mm, Thermal Pad 2.38x1.65mm)
pins: 1 BD (power) "This pin connects to the anode of the boost Schottky diode.", 2 BOOST "This pin is used to provide a drive voltage, higher than the input voltage, to the internal bipolar NPN power switch.", 3 SW (power) "The SW pin is the output of the internal power switch. Connect this pin to the inductor, catch diode and boost capacitor.", 4 VIN (power) "The VIN pin supplies current to the LT3684’s internal regulator and to the internal power switch. This pin must be locally bypassed.", 5 RUN/SS (in) "The RUN/SS pin is used to put the LT3684 in shutdown mode. Tie to ground to shut down the LT3684. Tie to 2.3V or more for normal operation. If the shutdown feature is not used, tie this pin to the VIN pin. RUN/SS also (See Datasheet)", 6 PG (oc) "The PG pin is the open collector output of an internal comparator. PG remains low until the FB pin is within 10% of the final regulation voltage. PG output is valid when VIN is above 3.5V and RUN/SS is high.", 7 BIAS (power) "The BIAS pin supplies the current to the LT3684’s internal regulator. Tie this pin to the lowest available voltage source above 3V (typically VOUT). This architecture increases effi ciency especially when the input voltag(See Datasheet)", 8 FB (in) "The LT3684 regulates the FB pin to 1.265V. Connect the feedback resistor divider tap to this pin.", 9 VC "The VC pin is the output of the internal error amplifier. The voltage on this pin controls the peak switch current. Tie an RC network from this pin to ground to compensate the control loop.", 10 RT "Oscillator Resistor Input. Connecting a resistor to ground from this pin sets the switching frequency.", 11 EP (power) "Ground. The Exposed Pad must be soldered to PCB."